# Altium footprint library Max_lib.PcbLib: 23 footprints (part 2 of 2)
Each footprint in its own frame and in the unit in brackets; x right, y up, seen from the top. Pads: shape width x height; smd on the part's side, far side on the other; paste and mask are expansions set on the pad; w line width, h text height; cw(c..) or ccw(c..) is an arc to the next point about the centre after c.
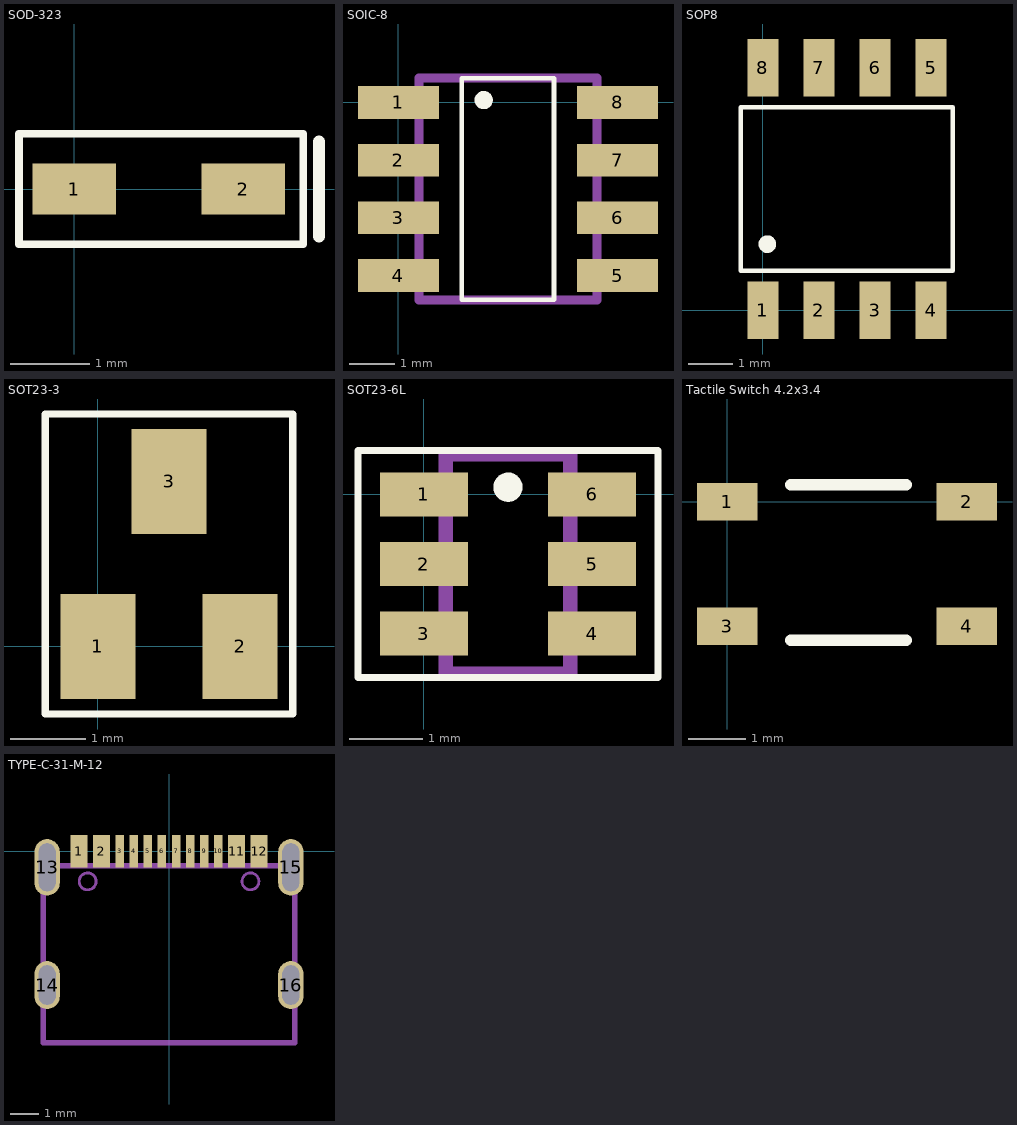
[diagram p1: the footprints below, top view; thin cyan lines are the x and y axes]

## SOD-323 [mm]
pads (2):
  rect 1.06x0.65 smd: 1(0,0) 2(2.14,0)
Top Overlay:
  lines w0.1: -0.7,-0.7 2.9,-0.7 2.9,0.7 -0.7,0.7 -0.7,-0.7
  lines w0.15: 3.1,-0.6 3.1,0.6
3D body "SOD-323.step": height 1.16, standoff 0, extent -0.325,-0.75 2.525,0.75

## SOIC-8 [mm]
pads (8):
  rect 1.78x0.72 smd: 1(0,0) 2(0,-1.27) 3(0,-2.54) 4(0,-3.81) 5(4.82,-3.81) 6(4.82,-2.54) 7(4.82,-1.27) 8(4.82,0)
Top Overlay:
  circle w0.2: c1.875,0.05 r0.1
  lines w0.1: 1.398,-4.345 1.398,0.535 3.423,0.535 3.423,-4.345 1.398,-4.345
Mechanical 13:
  lines w0.2: 0.455,-4.345 4.365,-4.345 4.365,0.535 0.455,0.535 0.455,-4.345
3D body "SOIC08 narrow.stp": height 2, standoff 0, extent -0.672,-4.405 5.492,0.595

## SOP8 [mm]
pads (8):
  rect 0.7x1.3 smd: 1(0,0) 2(1.27,0) 3(2.54,0) 4(3.81,0) 5(3.81,5.5) 6(2.54,5.5) 7(1.27,5.5) 8(0,5.5)
Top Overlay:
  circle w0.2: c0.1,1.5 r0.1
  lines w0.1: -0.5,0.9 4.3,0.9 4.3,4.6 -0.5,4.6 -0.5,0.9
3D body "sop8.STEP": height 1.55, standoff -0.01, extent -0.539,-0.166 4.361,5.814

## SOT23-3 [mm]
pads (3):
  rect 1x1.4 smd: 1(0,0) 2(1.9,0) 3(0.95,2.2)
Top Overlay:
  lines w0.1: -0.7,-0.9 2.6,-0.9 2.6,3.1 -0.7,3.1 -0.7,-0.9
3D body "SOT23-3.step": height 1.1, standoff 0, extent -0.55,-0.15 2.45,2.35

## SOT23-6L [mm]
pads (6):
  rect 1.2x0.6 smd: 1(0,0) 2(0,-0.95) 3(0,-1.9) 4(2.3,-1.9) 5(2.3,-0.95) 6(2.3,0)
Top Overlay:
  circle w0.2: c1.15,0.1 r0.1
  lines w0.1: -0.9,-2.5 -0.9,0.6 3.2,0.6 3.2,-2.5 -0.9,-2.5
Mechanical 13:
  lines w0.2: 0.3,-2.45 0.3,0.55 2,0.55 2,-2.45 0.3,-2.45
3D body "SOT23-6.step": height 1.1, standoff 0, extent -0.1,-2.45 2.4,0.55

## Tactile Switch 4.2x3.4 [mm]
pads (4):
  rect 1.05x0.65 smd: 1(0,0) 2(4.15,0) 3(0,-2.15) 4(4.15,-2.15)
Top Overlay:
  lines w0.2: 1.1,-2.4 3.1,-2.4 ; 1.1,0.3 3.1,0.3
3D body "skrpace010.x_t": height 2.5, standoff 0, extent -0.225,-2.675 4.375,0.525

## TYPE-C-31-M-12 [mm]
pads (16):
  rect 0.6x1.14 smd: 1(-3.2,0) 2(-2.4,0) 11(2.4,0) 12(3.2,0)
  rect 0.3x1.14 smd: 3(-1.75,0) 4(-1.25,0) 5(-0.75,0) 6(-0.25,0) 7(0.25,0) 8(0.75,0) 9(1.25,0) 10(1.75,0)
  oval 0.9x2 hole 0.6 slot 1.7 at 90 deg: 13(-4.325,-0.57) 15(4.325,-0.57)
  oval 0.9x1.7 hole 0.6 slot 1.4 at 90 deg: 14(-4.325,-4.75) 16(4.325,-4.75)
Mechanical 1:
  circle w0.1: c-2.89,-1.07 r0.3
  circle w0.1: c2.89,-1.07 r0.3
Mechanical 13:
  lines w0.2: -4.47,-6.8 4.47,-6.8 4.47,-0.51 -4.47,-0.51 -4.47,-6.8
3D body "HRO_TYPE-C-31-M-12.step": height 3.16, standoff -1.04, extent -4.475,-7.3 4.475,0.6